# Altium schematic symbol library ADG3242.SchLib: 1 symbol
Pins are listed as number, name and electrical type; pins without a type are passive.

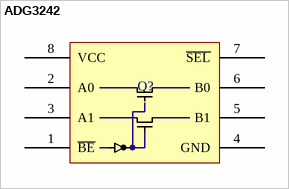
[diagram p0: symbol ADG3242]

## ADG3242
designator Q?  (value not drawn)
pins: 1 ~{BE}, 2 A0, 3 A1, 4 GND, 5 B1, 6 B0, 7 ~{SEL}, 8 VCC